# Altium footprint library SnapEDApcb.PcbLib: 1 footprints
Each footprint in its own frame and in the unit in brackets; x right, y up, seen from the top. Pads: shape width x height; smd on the part's side, far side on the other; paste and mask are expansions set on the pad; w line width, h text height; cw(c..) or ccw(c..) is an arc to the next point about the centre after c.
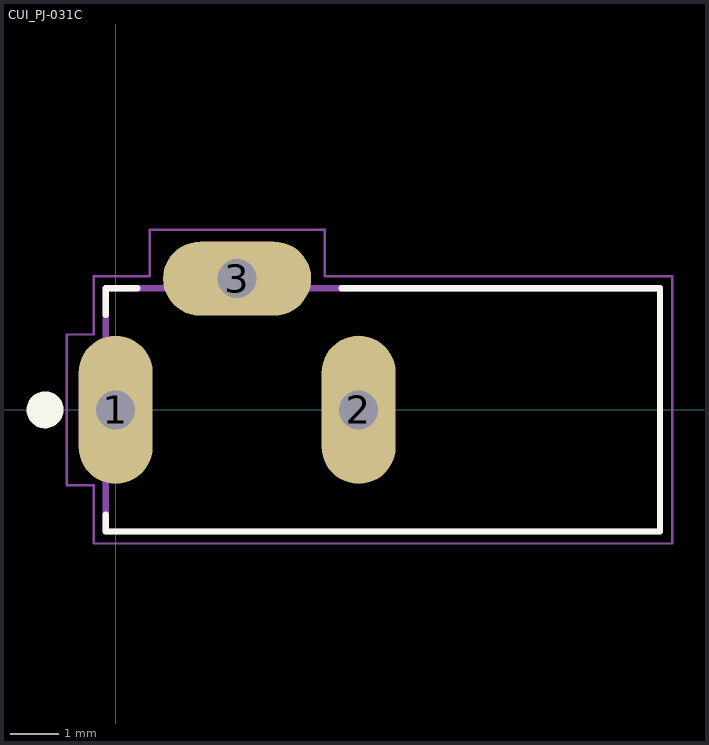
[diagram p0: the footprint, top view; thin cyan lines are the x and y axes]

## CUI_PJ-031C [mil]
pads (3):
  oval 60x120 hole 31.5 square: 1(0,0) 2(196.85,0)
  oval 120x60 hole 31.5 square: 3(98.43,106.3)
Top Overlay:
  circle w14.96: c-57.09,0 r7.48
  circle w14.96: c-57.09,0 r7.48
  lines w5: -7.87,-84.65 -7.87,-98.43 440.94,-98.43 440.94,98.43 183.07,98.43 ; -7.87,76.77 -7.87,98.43 17.72,98.43
Mechanical 13:
  lines w5: -7.87,-98.43 -7.87,98.43 440.94,98.43 440.94,-98.43 -7.87,-98.43
Mechanical 15:
  lines w1.97: -39.37,-61.02 -39.37,61.02 -17.72,61.02 -17.72,108.27 27.56,108.27 27.56,145.67 169.29,145.67 169.29,108.27 450.79,108.27 450.79,-108.27 -17.72,-108.27 -17.72,-61.02 -39.37,-61.02
3D body "CUI_DEVICES_PJ-031D.step": height 291.34, standoff -125.98, extent -13.35,-102.6 443.35,110